# Altium integrated library CL05A104KA5NNNC.IntLib: 1 symbol
Pins are listed as number, name and electrical type; pins without a type are passive.

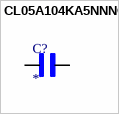
[diagram p0: symbol CL05A104KA5NNNC]

## CL05A104KA5NNNC
designator C?
0.1 ÂµF Â±10% 25V Ceramic Capacitor X5R 0402 (1005 Metric); MF: Samsung; MP: CL05A104KA5NNNC; SnapEDA_Link: https://www.snapeda.com/parts/CL05A104KA5NNNC/Samsung/view-part/?ref=snap; Package: SMD-2 Samsung; Value: *; Check_prices: https://www.snapeda.com/parts/CL05A104KA5NNNC/Samsung/view-part/?ref=eda
footprint CAPC1005X55N
pins: 1, 2